# EAGLE library part SENSOR_HUMIDITY_HIH61XX (library ee_projects)
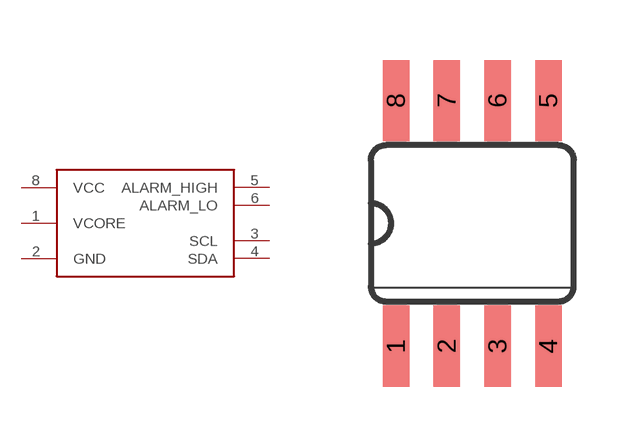
[diagram p9: symbol with the pads of SO08; footprint SO08]

Designator prefix -

## SENSOR_HUMIDITY_HIH61XX  [SO08]
1  VCORE
2  GND
3  SCL
4  SDA
5  ALARM_HIGH
6  ALARM_LO
8  VCC

## Footprint SO08 (pad centres in mm)
Small Outline Package SOIC 150 mil
smd 0.66 x 2.032: 1 -1.905,-3.073; 2 -0.635,-3.073; 3 0.635,-3.073; 4 1.905,-3.073; 5 1.905,3.073; 6 0.635,3.073; 7 -0.635,3.073; 8 -1.905,3.073